# EAGLE library part MCP9808 (library mh_sensors)
MCP9808-E/MS Temperatursensor-IC, AEC-Q100, Digital, ± 0.25°C, -40 °C, +125 °C, MSOP, 8 Pin(s) http://de.farnell.com/microchip/mcp9808-e-ms/temp-sensor-i2c-20-b-100-c-8msop/dp/2080523
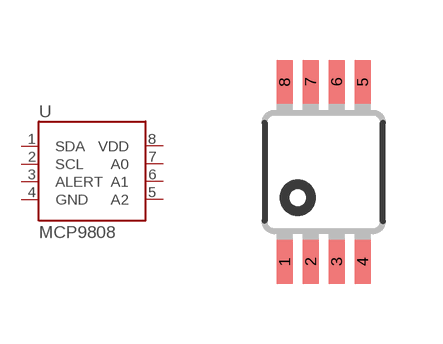
[diagram p0: symbol with the pads of MSOP8; footprint MSOP8]

Designator prefix U

## MCP9808  [MSOP8]
1  SDA
2  SCL
3  ALERT  out
4  GND  sup
5  A2  pas
6  A1  pas
7  A0  pas
8  VDD  sup

## Footprint MSOP8 (pad centres in mm)
8M, 8-Lead, 0.118" Wide, Miniature Small Outline Package MSOP 8M-Package doc1097.pdf
smd 0.4 x 1.1: 1 -0.975,-2.25; 2 -0.325,-2.25; 3 0.325,-2.25; 4 0.975,-2.25; 5 0.975,2.25; 6 0.325,2.25; 7 -0.325,2.25; 8 -0.975,2.25